# Altium schematic symbol library CRCW08055K10FKEA.SchLib: 1 symbol
Pins are listed as number, name and electrical type; pins without a type are passive.

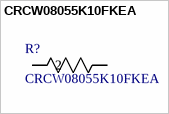
[diagram p0: symbol CRCW08055K10FKEA]

## CRCW08055K10FKEA
designator R?
D12/CRCW0805 100 5K1 1% ET1 e3; Manufacturer_Name: Vishay; Copyright: Copyright (C) 2026 Ultra Librarian. All rights reserved.; Manufacturer_Part_Number: CRCW08055K10FKEA
footprint RES_CRCW_0805
pins: 1, 2